# Altium schematic symbol library Schottky.SchLib: 4 symbols
Pins are listed as number, name and electrical type; pins without a type are passive.

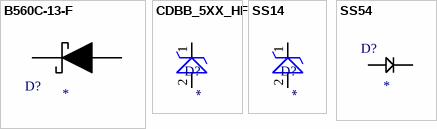
[diagram p0: symbols B560C-13-F to SS54]

## B560C-13-F
designator D?, comment ERP_104-3  (value not drawn)
Manufacturer 1: Diodes Incorporated; Manufacturer Part Number 1: *; Value: *
footprint B560C-13-F
pins: 1 C, 2 A

## CDBB_5XX_HF
designator D?
SMB(DO-214AA) DIODE HF 5A; Package: SMB; Manufacturer Part Number 1: *; Manufacturer 1: *; Value: *
footprint SMB(DO214AA)
pins: 1 K, 2 A

## SS14
designator D?, comment ERP_104-3  (value not drawn)
SS14; Manufacturer 1: MDD; Package: SMA; Manufacturer Part Number 1: SS14; Value: *
footprint SMA(DO214AC)
pins: 1 K, 2 A

## SS54
designator D?, comment ERP_104-3  (value not drawn)
Supplier Part Number 1: *; Supplier  1: *; Package: SMC; Manufacturer Part Number 1: *; Manufacturer 1: *; Value: *
footprint DIOM6959X26L (Molded Diode, 2-Leads, Body 6.86x5.91mm, IPC High Density)
pins: 1 C, 2 A